# Altium integrated library XI6432BRQAAMY.IntLib: 1 symbol
Pins are listed as number, name and electrical type; pins without a type are passive.

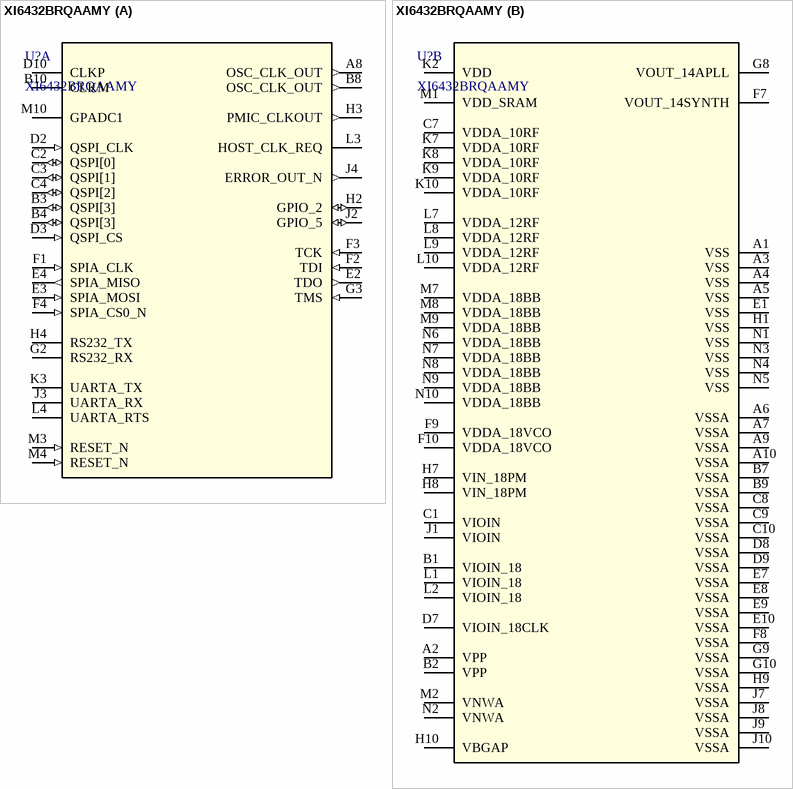
[diagram p0: symbol XI6432BRQAAMY]

## XI6432BRQAAMY
designator U?
Single-chip low-power 57GHz to 63.5GHz industrial mmWave radar sensor with integrated antenna 101-FCCSP -40 to 105; Manufacturer_Name: Texas Instruments; TYPE: TYPE; RefDes: RefDes; Copyright: Copyright (C) 2026 Ultra Librarian. All rights reserved.; Manufacturer_Part_Number: XI6432BRQAAMY
footprint AMY0101A-MFG
part A pins: A8 OSC_CLK_OUT (out), B3 QSPI[3] (io), B4 QSPI[3] (io), B8 OSC_CLK_OUT (out), B10 CLKM, C2 QSPI[0] (io), C3 QSPI[1] (io), C4 QSPI[2] (io), D2 QSPI_CLK (in), D3 QSPI_CS (in), D10 CLKP, E2 TDO (out), E3 SPIA_MOSI (in), E4 SPIA_MISO (out), F1 SPIA_CLK (in), F2 TDI (in), F3 TCK (in), F4 SPIA_CS0_N (in), G2 RS232_RX, G3 TMS (in), H2 GPIO_2 (io), H3 PMIC_CLKOUT (out), H4 RS232_TX, J2 GPIO_5 (io), J3 UARTA_RX, J4 ERROR_OUT_N (out), K3 UARTA_TX, L3 HOST_CLK_REQ, L4 UARTA_RTS, M3 RESET_N (in), M4 RESET_N (in), M10 GPADC1
part B pins: A1 VSS (power), A2 VPP (power), A3 VSS (power), A4 VSS (power), A5 VSS (power), A6 VSSA (power), A7 VSSA (power), A9 VSSA (power), A10 VSSA (power), B1 VIOIN_18 (power), B2 VPP (power), B7 VSSA (power), B9 VSSA (power), C1 VIOIN (power), C7 VDDA_10RF (power), C8 VSSA (power), C9 VSSA (power), C10 VSSA (power), D7 VIOIN_18CLK (power), D8 VSSA (power), D9 VSSA (power), E1 VSS (power), E7 VSSA (power), E8 VSSA (power), E9 VSSA (power), E10 VSSA (power), F7 VOUT_14SYNTH (power), F8 VSSA (power), F9 VDDA_18VCO (power), F10 VDDA_18VCO (power), G8 VOUT_14APLL (power), G9 VSSA (power), G10 VSSA (power), H1 VSS (power), H7 VIN_18PM (power), H8 VIN_18PM (power), H9 VSSA (power), H10 VBGAP (power), J1 VIOIN (power), J7 VSSA (power), J8 VSSA (power), J9 VSSA (power), J10 VSSA (power), K2 VDD (power), K7 VDDA_10RF (power), K8 VDDA_10RF (power), K9 VDDA_10RF (power), K10 VDDA_10RF (power), L1 VIOIN_18 (power), L2 VIOIN_18 (power), L7 VDDA_12RF (power), L8 VDDA_12RF (power), L9 VDDA_12RF (power), L10 VDDA_12RF (power), M1 VDD_SRAM (power), M2 VNWA (power), M7 VDDA_18BB (power), M8 VDDA_18BB (power), M9 VDDA_18BB (power), N1 VSS (power), N2 VNWA (power), N3 VSS (power), N4 VSS (power), N5 VSS (power), N6 VDDA_18BB (power), N7 VDDA_18BB (power), N8 VDDA_18BB (power), N9 VDDA_18BB (power), N10 VDDA_18BB (power)